# Altium footprint library ASMCI-0805-4R7M-T.PcbLib: 1 footprints
Each footprint in its own frame and in the unit in brackets; x right, y up, seen from the top. Pads: shape width x height; smd on the part's side, far side on the other; paste and mask are expansions set on the pad; w line width, h text height; cw(c..) or ccw(c..) is an arc to the next point about the centre after c.
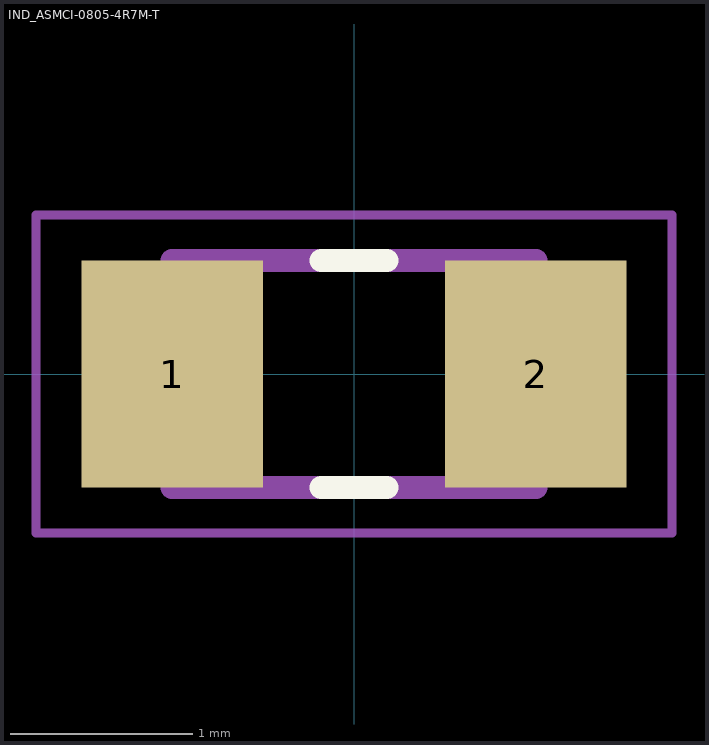
[diagram p0: the footprint, top view; thin cyan lines are the x and y axes]

## IND_ASMCI-0805-4R7M-T [mm]
pads (2):
  rect 1x1.25 smd: 1(-1,0) 2(1,0)
Top Overlay:
  lines w0.127: -0.18,-0.625 0.18,-0.625 ; -0.18,0.625 0.18,0.625
Mechanical 13:
  lines w0.127: -1,-0.625 -1,0.625 1,0.625 1,-0.625 -1,-0.625
Mechanical 15:
  lines w0.05: -1.75,-0.875 -1.75,0.875 1.75,0.875 1.75,-0.875 -1.75,-0.875
3D body "step_temp.STEP": height 1.26, standoff 0.01, extent -1,-0.625 1,0.625